# EAGLE library part PULSE-P0584NL (library keves)
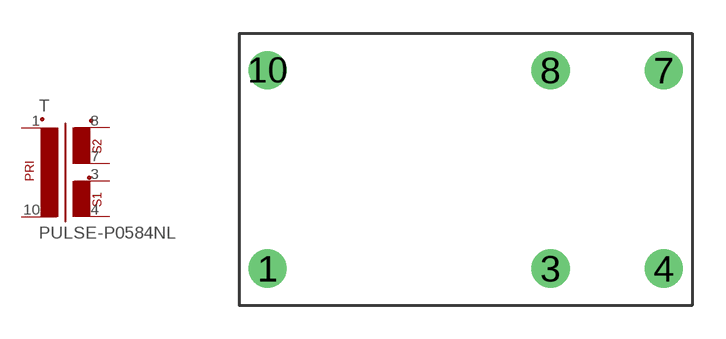
[diagram p36: symbol with the pads of PULSE-P0584NL; footprint PULSE-P0584NL]

Designator prefix T

## PULSE-P0584NL  [PULSE-P0584NL]
1  PRI_POS  pas
3  SEC1_POS  pas
4  SEC1_NEG  pas
7  SEC2_NEG  pas
8  SEC2_POS  pas
10  PRI_NEG  pas

## Footprint PULSE-P0584NL (pad centres in mm)
drill 1.143: 1 -12.7,-4.445; 3 0,-4.445; 4 5.08,-4.445; 7 5.08,4.445; 8 0,4.445; 10 -12.7,4.445